# Altium schematic symbol library 50PTS_CF-N7E50-3M.SchLib: 1 symbol
Pins are listed as number, name and electrical type; pins without a type are passive.

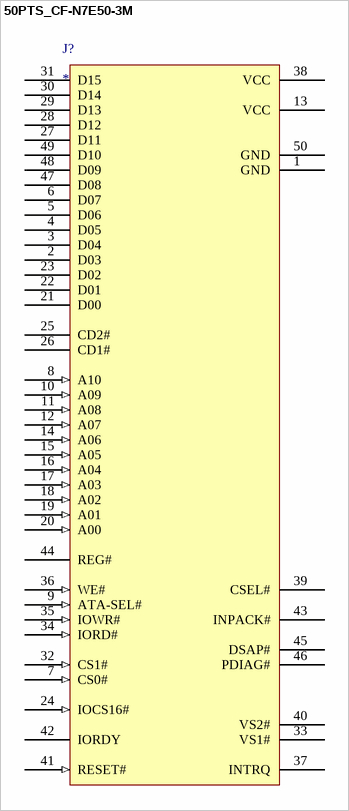
[diagram p0: symbol 50PTS_CF-N7E50-3M]

## 50PTS_CF-N7E50-3M
designator J?
pins: 1 GND (power), 2 D03, 3 D04, 4 D05, 5 D06, 6 D07, 7 CS0# (in), 8 A10 (in), 9 ATA-SEL# (in), 10 A09 (in), 11 A08 (in), 12 A07 (in), 13 VCC (power), 14 A06 (in), 15 A05 (in), 16 A04 (in), 17 A03 (in), 18 A02 (in), 19 A01 (in), 20 A00 (in), 21 D00, 22 D01, 23 D02, 24 IOCS16# (in), 25 CD2#, 26 CD1#, 27 D11, 28 D12, 29 D13, 30 D14, 31 D15, 32 CS1# (in), 33 VS1#, 34 IORD# (in), 35 IOWR# (in), 36 WE# (in), 37 INTRQ, 38 VCC (power), 39 CSEL#, 40 VS2#, 41 RESET# (in), 42 IORDY, 43 INPACK#, 44 REG#, 45 DSAP#, 46 PDIAG#, 47 D08, 48 D09, 49 D10, 50 GND (power)